# Altium footprint library 5200.PcbLib: 38 footprints (part 2 of 3)
Each footprint in its own frame and in the unit in brackets; x right, y up, seen from the top. Pads: shape width x height; smd on the part's side, far side on the other; paste and mask are expansions set on the pad; w line width, h text height; cw(c..) or ccw(c..) is an arc to the next point about the centre after c.
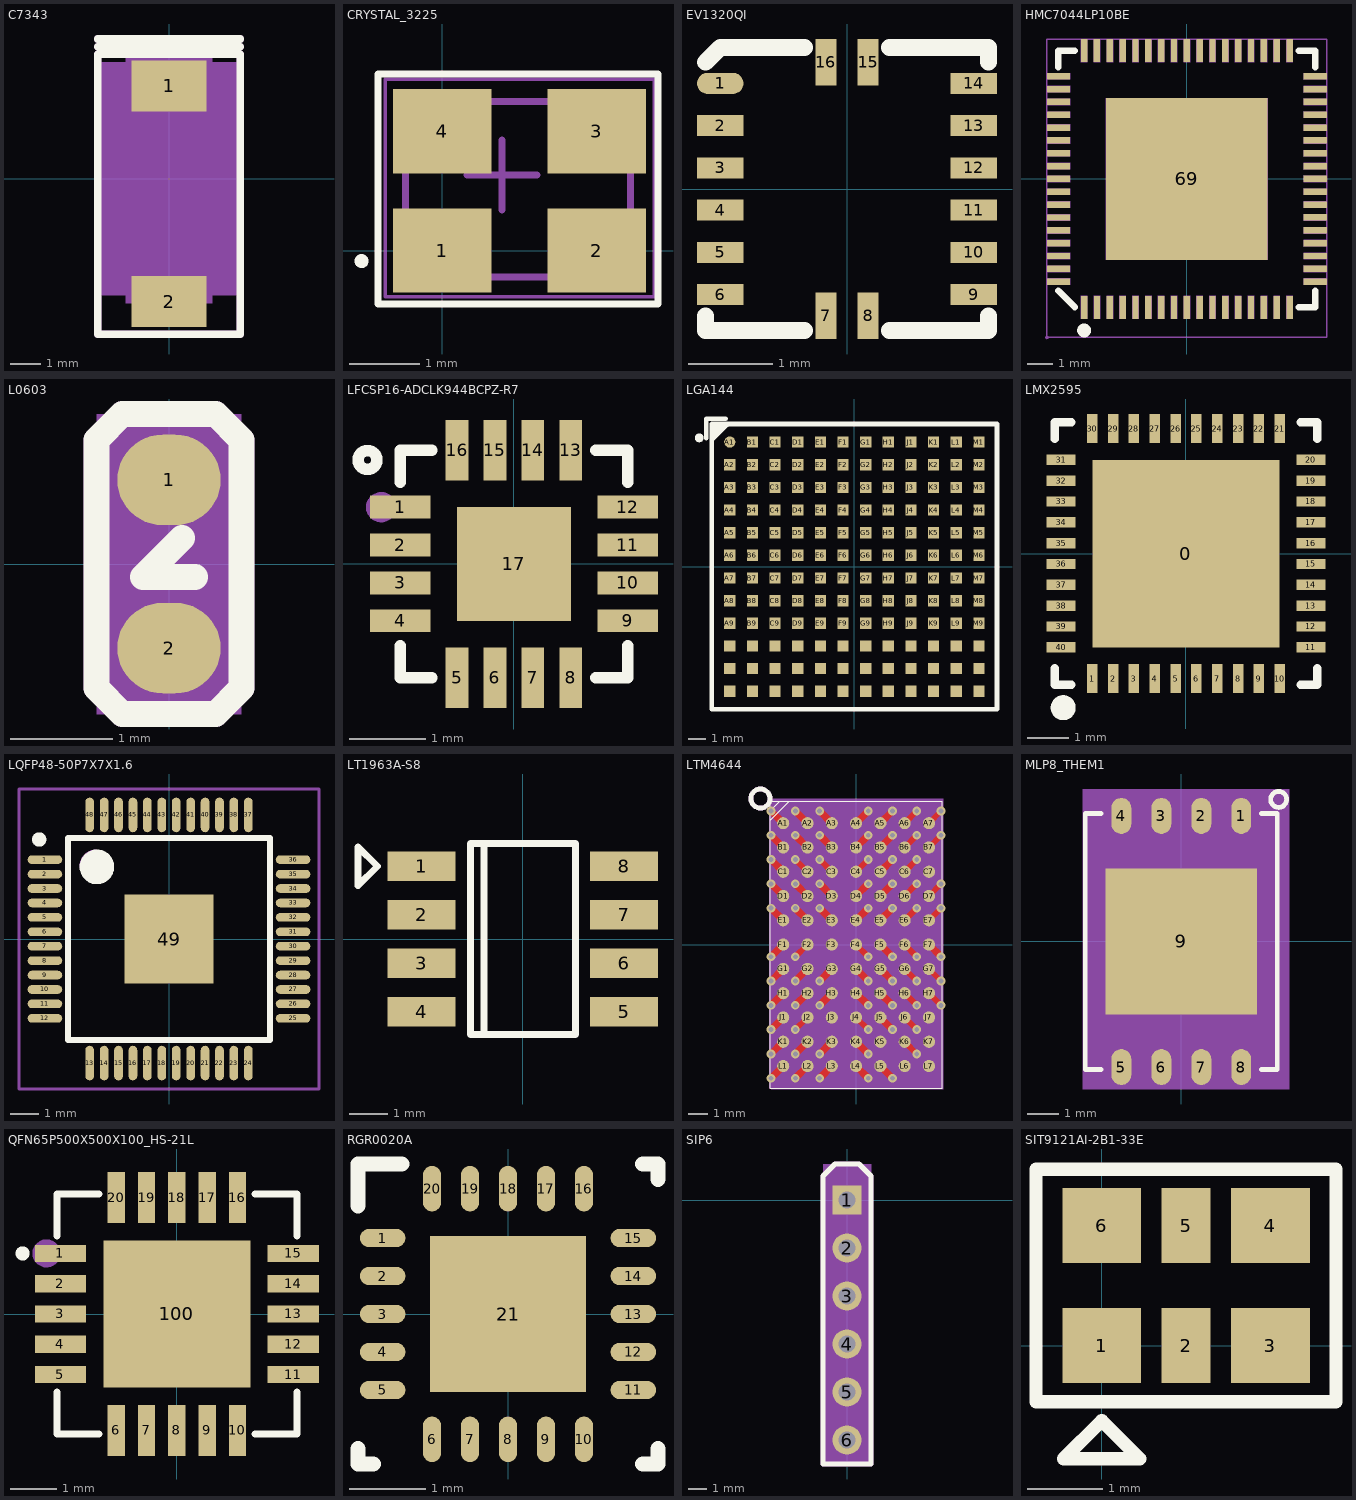
[diagram p1: the footprints below, top view; thin cyan lines are the x and y axes]

## C7343 [mil] "C7343"
pads (2):
  rect 98x67 smd: 1(0,121.98) 2(0,-161.35)
Top Overlay:
  lines w9.84: -93.58,-163.48 -93.58,-204.06 93.58,-204.06 93.58,-163.48
  lines w10: -93.58,-163.48 -93.58,163.48 ; -93.58,173.48 93.58,173.48 ; -93.58,183.48 93.58,183.48 ; 93.58,-163.48 93.58,163.48 ; -93.58,163.48 93.58,163.48 ; -93.58,163.48 93.58,163.48
Mechanical 5:
  lines w9.84: -93.58,-163.48 -93.58,-204.06 93.58,-204.06 93.58,-163.48
  lines w10: -93.58,-163.48 -93.58,163.48 ; -93.58,173.48 93.58,173.48 ; -93.58,183.48 93.58,183.48 ; 93.58,-163.48 93.58,163.48 ; -93.58,163.48 93.58,163.48 ; -93.58,163.48 93.58,163.48
  text "CT1" at -30,209.48 h25
Mechanical 14:
  text "1" at -10,121.98 h25
  text "2" at -10,-161.35 h25
Mechanical 16:
  pour cut-out: 57,163.48 57,152.64 93.58,152.64 93.58,-152.64 57,-152.64 57,-163.48 -57,-163.48 -57,-152.64 -93.58,-152.64 -93.58,152.64 -57,152.64 -57,163.48
  region: -88.58,147.64 -88.58,-147.64 88.58,-147.64 88.58,147.64
  lines w1: -88.58,-147.64 -88.58,147.64 88.58,147.64 88.58,-147.64 -88.58,-147.64
Mechanical 17:
  text ".Designator" at -30,-16.67 h25
3D body: height 150, standoff 0, extent -88.58,-147.64 88.58,147.64

## CRYSTAL_3225 [mm]
pads (4):
  rect 1.4x1.2 smd: 1(0,0) 2(2.2,0) 3(2.2,1.7) 4(0,1.7)
Top Overlay:
  circle w0.1: c-1.15,-0.15 r0.05
  lines w0.1: -0.914,-0.762 -0.914,2.515 3.073,2.515 3.073,-0.762 -0.914,-0.762
Mechanical 13:
  lines w0.1: -0.521,-0.379 2.679,-0.379 2.679,2.121 -0.521,2.121 -0.521,-0.379
Mechanical 15:
  lines w0.05: -0.813,-0.66 3.023,-0.66 3.023,2.438 -0.813,2.438 -0.813,-0.66
  lines w0.1: 0.35,1.075 1.35,1.075 ; 0.85,0.575 0.85,1.575
3D body: height 0.7, standoff 0.1, extent -0.508,-0.412 2.692,2.088

## EV1320QI [mm]
pads (16):
  oval 0.55x0.25 smd: 1(-1.5,1.25)
  rect 0.55x0.25 smd: 2(-1.5,0.75) 3(-1.5,0.25) 4(-1.5,-0.25) 5(-1.5,-0.75) 6(-1.5,-1.25) 9(1.5,-1.25) 10(1.5,-0.75) 11(1.5,-0.25) 12(1.5,0.25) 13(1.5,0.75) 14(1.5,1.25)
  rect 0.25x0.55 smd: 7(-0.25,-1.5) 8(0.25,-1.5) 15(0.25,1.5) 16(-0.25,1.5)
Top Overlay:
  lines w0.2: -1.675,-1.5 -1.675,-1.675 -0.5,-1.675 ; -1.675,1.5 -1.5,1.675 -0.5,1.675 ; 0.5,-1.675 1.675,-1.675 1.675,-1.5 ; 0.5,1.675 1.675,1.675 1.675,1.5

## HMC7044LP10BE [mm]
pads (69):
  rect 0.25x0.9 smd mask+0.051: 1(-4,-5) 2(-3.5,-5) 3(-3,-5) 4(-2.5,-5) 5(-2,-5) 6(-1.5,-5) 7(-1,-5) 8(-0.5,-5) 9(0,-5) 10(0.5,-5) 11(1,-5) 12(1.5,-5) 13(2,-5) 14(2.5,-5) 15(3,-5) 16(3.5,-5) 17(4,-5) 35(4,5) 36(3.5,5) 37(3,5) 38(2.5,5) 39(2,5) 40(1.5,5) 41(1,5) 42(0.5,5) 43(0,5) 44(-0.5,5) 45(-1,5) 46(-1.5,5) 47(-2,5) 48(-2.5,5) 49(-3,5) 50(-3.5,5) 51(-4,5)
  rect 0.9x0.25 smd mask+0.051: 18(5,-4) 19(5,-3.5) 20(5,-3) 21(5,-2.5) 22(5,-2) 23(5,-1.5) 24(5,-1) 25(5,-0.5) 26(5,0) 27(5,0.5) 28(5,1) 29(5,1.5) 30(5,2) 31(5,2.5) 32(5,3) 33(5,3.5) 34(5,4) 52(-5,4) 53(-5,3.5) 54(-5,3) 55(-5,2.5) 56(-5,2) 57(-5,1.5) 58(-5,1) 59(-5,0.5) 60(-5,0) 61(-5,-0.5) 62(-5,-1) 63(-5,-1.5) 64(-5,-2) 65(-5,-2.5) 66(-5,-3) 67(-5,-3.5) 68(-5,-4)
  rect 6.3x6.3 smd mask+0.051: 69(0,0)
Top Overlay:
  circle w0.254: c-4,-5.9 r0.141
  lines w0.254: -5,-4.356 -4.356,-5 ; -5,4.356 -5,5 -4.356,5 ; 4.356,-5 5,-5 5,-4.356 ; 4.356,5 5,5 5,4.356
Mechanical 15:
  drawing of 74 lines, arcs and shapes, not listed

## L0603 [mil] "L0603"
pads (2):
  oval 40x35 smd: 1(0,32.5) 2(0,-32.5)
Top Overlay:
  lines w10: 5,10 -10,-5 10,-5 ; -28,-48 -18,-58 18,-58 28,-48 28,48 18,58 -18,58 -28,48 -28,-48
Mechanical 5:
  lines w10: -25,-51.01 -28,-48 -28,48 -25,51.01 ; -21,-54.99 -18,-58 18,-58 21,-54.99 ; -21,54.99 -18,58 18,58 21,54.99 ; 5,10 -10,-5 10,-5 ; 25,-51.01 28,-48 28,48 25,51.01
Mechanical 14:
  text "2" at 11.2,-32.5 h28
  text "1" at 11.2,32.5 h28
Mechanical 16:
  region: -19.7,-35.4 19.7,-35.4 19.7,35.4 -19.7,35.4
  pour cut-out: -28,-58 28,-58 28,58 -28,58
  lines w1: -19.7,-35.4 19.7,-35.4 19.7,35.4 -19.7,35.4 -19.7,-35.4
3D body: height 150, standoff 0, extent -19.7,-35.4 19.7,35.4

## LFCSP16-ADCLK944BCPZ-R7 [mm]
pads (17):
  rect 0.8x0.3 smd: 1(-1.5,0.75) 2(-1.5,0.249) 3(-1.5,-0.25) 4(-1.5,-0.75) 9(1.5,-0.75) 10(1.5,-0.25) 11(1.5,0.25) 12(1.5,0.75)
  rect 0.3x0.8 smd: 5(-0.75,-1.5) 6(-0.25,-1.5) 7(0.25,-1.5) 8(0.751,-1.498) 13(0.75,1.5) 14(0.25,1.5) 15(-0.25,1.5) 16(-0.75,1.5)
  rect 1.5x1.5 smd: 17(0,0)
Top Overlay:
  lines w0.15: -1.805,1.37 cw(c-1.93,1.372) -1.805,1.373 ; -1.5,-1.079 -1.5,-1.5 -1.079,-1.5 ; -1.5,1.079 -1.5,1.5 -1.079,1.5 ; 1.08,-1.5 1.5,-1.5 1.5,-1.079 ; 1.079,1.5 1.5,1.5 1.5,1.079
Top Paste:
  region: -0.6,1.9 -0.6,1.1 -0.9,1.1 -0.9,1.9
  region: -0.1,1.9 -0.1,1.1 -0.4,1.1 -0.4,1.9
  region: 0.4,1.9 0.4,1.1 0.1,1.1 0.1,1.9
  region: 0.9,1.9 0.9,1.1 0.6,1.1 0.6,1.9
  region: 1.9,0.9 1.9,0.6 1.1,0.6 1.1,0.9
  region: 1.9,0.4 1.9,0.1 1.1,0.1 1.1,0.4
  region: 1.9,-0.1 1.9,-0.4 1.1,-0.4 1.1,-0.1
  region: 1.9,-0.6 1.9,-0.9 1.1,-0.9 1.1,-0.6
  region: 0.901,-1.098 0.901,-1.898 0.601,-1.898 0.601,-1.098
  region: 0.4,-1.1 0.4,-1.9 0.1,-1.9 0.1,-1.1
  region: -0.1,-1.1 -0.1,-1.9 -0.4,-1.9 -0.4,-1.1
  region: -0.6,-1.1 -0.6,-1.9 -0.9,-1.9 -0.9,-1.1
  region: -1.1,-0.6 -1.1,-0.9 -1.9,-0.9 -1.9,-0.6
  region: -1.1,-0.1 -1.1,-0.4 -1.9,-0.4 -1.9,-0.1
  region: -1.1,0.398 -1.1,0.099 -1.9,0.099 -1.9,0.398
  region: -1.1,0.9 -1.1,0.6 -1.9,0.6 -1.9,0.9
  region: -0.6,-0.6 -0.6,0.6 0.6,0.6 0.6,-0.6
Mechanical 15:
  circle w0.2: c-1.75,0.75 r0.1

## LGA144 [mm] "LTM4630"
pads (144):
  round 0.63 smd: A1(-6.985,6.985)
  rect 0.63x0.63 smd: A2(-6.985,5.715) A3(-6.985,4.445) A4(-6.985,3.175) A5(-6.985,1.905) A6(-6.985,0.635) A7(-6.985,-0.635) A8(-6.985,-1.905) A9(-6.985,-3.175) A10(-6.985,-4.445) A11(-6.985,-5.715) A12(-6.985,-6.985) B1(-5.715,6.985) B2(-5.715,5.715) B3(-5.715,4.445) B4(-5.715,3.175) B5(-5.715,1.905) B6(-5.715,0.635) B7(-5.715,-0.635) B8(-5.715,-1.905) B9(-5.715,-3.175) B10(-5.715,-4.445) B11(-5.715,-5.715) B12(-5.715,-6.985) C1(-4.445,6.985) C2(-4.445,5.715) C3(-4.445,4.445) C4(-4.445,3.175) C5(-4.445,1.905) C6(-4.445,0.635) C7(-4.445,-0.635) C8(-4.445,-1.905) C9(-4.445,-3.175) C10(-4.445,-4.445) C11(-4.445,-5.715) C12(-4.445,-6.985) D1(-3.175,6.985) D2(-3.175,5.715) D3(-3.175,4.445) D4(-3.175,3.175) D5(-3.175,1.905) D6(-3.175,0.635) D7(-3.175,-0.635) D8(-3.175,-1.905) D9(-3.175,-3.175) D10(-3.175,-4.445) D11(-3.175,-5.715) D12(-3.175,-6.985) E1(-1.905,6.985) E2(-1.905,5.715) E3(-1.905,4.445) E4(-1.905,3.175) E5(-1.905,1.905) E6(-1.905,0.635) E7(-1.905,-0.635) E8(-1.905,-1.905) E9(-1.905,-3.175) E10(-1.905,-4.445) E11(-1.905,-5.715) E12(-1.905,-6.985) F1(-0.635,6.985) F2(-0.635,5.715) F3(-0.635,4.445) F4(-0.635,3.175) F5(-0.635,1.905) F6(-0.635,0.635) F7(-0.635,-0.635) F8(-0.635,-1.905) F9(-0.635,-3.175) F10(-0.635,-4.445) F11(-0.635,-5.715) F12(-0.635,-6.985) G1(0.635,6.985) G2(0.635,5.715) G3(0.635,4.445) G4(0.635,3.175) G5(0.635,1.905) G6(0.635,0.635) G7(0.635,-0.635) G8(0.635,-1.905) G9(0.635,-3.175) G10(0.635,-4.445) G11(0.635,-5.715) G12(0.635,-6.985) H1(1.905,6.985) H2(1.905,5.715) H3(1.905,4.445) H4(1.905,3.175) H5(1.905,1.905) H6(1.905,0.635) H7(1.905,-0.635) H8(1.905,-1.905) H9(1.905,-3.175) H10(1.905,-4.445) H11(1.905,-5.715) H12(1.905,-6.985) J1(3.175,6.985) J2(3.175,5.715) J3(3.175,4.445) J4(3.175,3.175) J5(3.175,1.905) J6(3.175,0.635) J7(3.175,-0.635) J8(3.175,-1.905) J9(3.175,-3.175) J10(3.175,-4.445) J11(3.175,-5.715) J12(3.175,-6.985) K1(4.445,6.985) K2(4.445,5.715) K3(4.445,4.445) K4(4.445,3.175) K5(4.445,1.905) K6(4.445,0.635) K7(4.445,-0.635) K8(4.445,-1.905) K9(4.445,-3.175) K10(4.445,-4.445) K11(4.445,-5.715) K12(4.445,-6.985) L1(5.715,6.985) L2(5.715,5.715) L3(5.715,4.445) L4(5.715,3.175) L5(5.715,1.905) L6(5.715,0.635) L7(5.715,-0.635) L8(5.715,-1.905) L9(5.715,-3.175) L10(5.715,-4.445) L11(5.715,-5.715) L12(5.715,-6.985) M1(6.985,6.985) M2(6.985,5.715) M3(6.985,4.445) M4(6.985,3.175) M5(6.985,1.905) M6(6.985,0.635) M7(6.985,-0.635) M8(6.985,-1.905) M9(6.985,-3.175) M10(6.985,-4.445) M11(6.985,-5.715) M12(6.985,-6.985)
Top Overlay:
  lines w0.249: -8.7,7.1 cw(c-8.699,7.225) -8.697,7.1
  lines w0.254: -8.3,7.2 -8.3,8.3 -7.2,8.3 ; -8,7.1 -7.165,7.935 -7.165,8 ; -8,7.401 -7.401,8 -7.33,8 ; -8,7.6 -7.699,7.901 -7.699,8 ; -8,-8 8,-8 8,8 -8,8 -8,-8

## LMX2595 [mm]
pads (41):
  rect 4.5x4.5 smd mask+0.05: 0(0,0)
  rect 0.25x0.7 smd mask+0.05: 1(-2.25,-3) 2(-1.75,-3) 3(-1.25,-3) 4(-0.75,-3) 5(-0.25,-3) 6(0.25,-3) 7(0.75,-3) 8(1.25,-3) 9(1.75,-3) 10(2.25,-3) 21(2.25,3) 22(1.75,3) 23(1.25,3) 24(0.75,3) 25(0.25,3) 26(-0.25,3) 27(-0.75,3) 28(-1.25,3) 29(-1.75,3) 30(-2.25,3)
  rect 0.7x0.25 smd mask+0.05: 11(3,-2.25) 12(3,-1.75) 13(3,-1.25) 14(3,-0.75) 15(3,-0.25) 16(3,0.25) 17(3,0.75) 18(3,1.25) 19(3,1.75) 20(3,2.25) 31(-3,2.25) 32(-3,1.75) 33(-3,1.25) 34(-3,0.75) 35(-3,0.25) 36(-3,-0.25) 37(-3,-0.75) 38(-3,-1.25) 39(-3,-1.75) 40(-3,-2.25)
Top Overlay:
  lines w0.2: -3.15,-2.75 -3.15,-3.15 -2.75,-3.15 ; -3.15,2.75 -3.15,3.15 -2.75,3.15 ; 2.75,-3.15 3.15,-3.15 3.15,-2.75 ; 2.75,3.15 3.15,3.15 3.15,2.75
  lines w0.3: -2.949,-3.551 ccw(c-2.948,-3.701) -2.947,-3.551

## LQFP48-50P7X7X1.6 [mm] "LQFP, 48-Leads, Body 9.2x9.2mm (max), Pitch 0.50mm, IPC Medium Density"
height 1.6
pads (49):
  oval 1.2x0.3 smd: 1(-4.3,2.75) 2(-4.3,2.25) 3(-4.3,1.75) 4(-4.3,1.25) 5(-4.3,0.75) 6(-4.3,0.25) 7(-4.3,-0.25) 8(-4.3,-0.75) 9(-4.3,-1.25) 10(-4.3,-1.75) 11(-4.3,-2.25) 12(-4.3,-2.75) 25(4.3,-2.75) 26(4.3,-2.25) 27(4.3,-1.75) 28(4.3,-1.25) 29(4.3,-0.75) 30(4.3,-0.25) 31(4.3,0.25) 32(4.3,0.75) 33(4.3,1.25) 34(4.3,1.75) 35(4.3,2.25) 36(4.3,2.75)
  oval 0.3x1.2 smd: 13(-2.75,-4.3) 14(-2.25,-4.3) 15(-1.75,-4.3) 16(-1.25,-4.3) 17(-0.75,-4.3) 18(-0.25,-4.3) 19(0.25,-4.3) 20(0.75,-4.3) 21(1.25,-4.3) 22(1.75,-4.3) 23(2.25,-4.3) 24(2.75,-4.3) 37(2.75,4.3) 38(2.25,4.3) 39(1.75,4.3) 40(1.25,4.3) 41(0.75,4.3) 42(0.25,4.3) 43(-0.25,4.3) 44(-0.75,4.3) 45(-1.25,4.3) 46(-1.75,4.3) 47(-2.25,4.3) 48(-2.75,4.3)
  rect 3.1x3.1 smd: 49(0,0)
Top Overlay:
  circle w0.25: c-4.5,3.45 r0.125
  circle w0.6: c-2.5,2.5 r0.3
  lines w0.2: -3.5,-3.5 -3.5,3.5 3.5,3.5 3.5,-3.5 -3.5,-3.5
Mechanical 13:
  circle w0.1: c-2.55,2.55 r0.5
  lines w0.1: -3.5,-3.5 -3.5,3.5 3.5,3.5 3.5,-3.5 -3.5,-3.5
Mechanical 15:
  lines w0.1: -0.5,0 0.5,0 ; 0,-0.5 0,0.5 ; -5.2,-5.2 -5.2,5.2 5.2,5.2 5.2,-5.2 -5.2,-5.2
3D body: height 1.6, standoff 0.05, extent -3.5,-3.5 3.5,3.5

## LT1963A-S8 [mil]
pads (8):
  rect 70x30 smd: 1(-104.33,75) 2(-104.33,25) 3(-104.33,-25) 4(-104.33,-75) 5(104.33,-75) 6(104.33,-25) 7(104.33,25) 8(104.33,75)
Top Overlay:
  lines w7: -40,-98.43 -40,98.43 ; -170,55 -170,95 -150,75 -170,55 ; -54.02,-98.43 54.2,-98.43 54.2,98.43 -54.02,98.43 -54.02,-98.43

## LTM4644 [mm] "LTM4644"
pads (77):
  round 0.635 smd: A1(-3.81,6.35) A2(-2.54,6.35) A3(-1.27,6.35) A4(0,6.35) A5(1.27,6.35) A6(2.54,6.35) A7(3.81,6.35) B1(-3.81,5.08) B2(-2.54,5.08) B3(-1.27,5.08) B4(0,5.08) B5(1.27,5.08) B6(2.54,5.08) B7(3.81,5.08) C1(-3.81,3.81) C2(-2.54,3.81) C3(-1.27,3.81) C4(0,3.81) C5(1.27,3.81) C6(2.54,3.81) C7(3.81,3.81) D1(-3.81,2.54) D2(-2.54,2.54) D3(-1.27,2.54) D4(0,2.54) D5(1.27,2.54) D6(2.54,2.54) D7(3.81,2.54) E1(-3.81,1.27) E2(-2.54,1.27) E3(-1.27,1.27) E4(0,1.27) E5(1.27,1.27) E6(2.54,1.27) E7(3.81,1.27) F1(-3.81,0) F2(-2.54,0) F3(-1.27,0) F4(0,0) F5(1.27,0) F6(2.54,0) F7(3.81,0) G1(-3.81,-1.27) G2(-2.54,-1.27) G3(-1.27,-1.27) G4(0,-1.27) G5(1.27,-1.27) G6(2.54,-1.27) G7(3.81,-1.27) H1(-3.81,-2.54) H2(-2.54,-2.54) H3(-1.27,-2.54) H4(0,-2.54) H5(1.27,-2.54) H6(2.54,-2.54) H7(3.81,-2.54) J1(-3.81,-3.81) J2(-2.54,-3.81) J3(-1.27,-3.81) J4(0,-3.81) J5(1.27,-3.81) J6(2.54,-3.81) J7(3.81,-3.81) K1(-3.81,-5.08) K2(-2.54,-5.08) K3(-1.27,-5.08) K4(0,-5.08) K5(1.27,-5.08) K6(2.54,-5.08) K7(3.81,-5.08) L1(-3.81,-6.35) L2(-2.54,-6.35) L3(-1.27,-6.35) L4(0,-6.35) L5(1.27,-6.35) L6(2.54,-6.35) L7(3.81,-6.35)
via -3.175,-4.445 diameter 0.457 hole 0.254
via 3.175,-3.175 diameter 0.457 hole 0.254
via 0.635,-4.445 diameter 0.457 hole 0.254
via -3.175,-0.635 diameter 0.457 hole 0.254
via -1.905,4.445 diameter 0.457 hole 0.254
via -3.175,4.445 diameter 0.457 hole 0.254
via 3.175,5.715 diameter 0.457 hole 0.254
via 0.635,4.445 diameter 0.457 hole 0.254
via 3.175,6.985 diameter 0.457 hole 0.254
via 3.175,3.175 diameter 0.457 hole 0.254
via 3.175,-1.905 diameter 0.457 hole 0.254
via 4.445,-3.175 diameter 0.457 hole 0.254
via 4.445,1.905 diameter 0.457 hole 0.254
via 4.445,5.715 diameter 0.457 hole 0.254
via 3.175,-5.715 diameter 0.457 hole 0.254
via 3.175,1.905 diameter 0.457 hole 0.254
via 0.635,-0.635 diameter 0.457 hole 0.254
via 4.445,3.175 diameter 0.457 hole 0.254
via 4.445,-1.905 diameter 0.457 hole 0.254
via 4.445,6.985 diameter 0.457 hole 0.254
via 3.175,4.445 diameter 0.457 hole 0.254
via 3.175,-0.635 diameter 0.457 hole 0.254
via 3.175,-4.445 diameter 0.457 hole 0.254
via -3.175,3.175 diameter 0.457 hole 0.254
via -4.445,3.175 diameter 0.457 hole 0.254
via -4.445,-0.635 diameter 0.457 hole 0.254
via -3.175,-1.905 diameter 0.457 hole 0.254
via -4.445,-1.905 diameter 0.457 hole 0.254
via -4.445,6.985 diameter 0.457 hole 0.254
via -4.445,4.445 diameter 0.457 hole 0.254
via -3.175,6.985 diameter 0.457 hole 0.254
via -1.905,6.985 diameter 0.457 hole 0.254
via 1.905,1.905 diameter 0.457 hole 0.254
via 0.635,1.905 diameter 0.457 hole 0.254
via -1.905,1.905 diameter 0.457 hole 0.254
via -1.905,5.715 diameter 0.457 hole 0.254
via 0.635,5.715 diameter 0.457 hole 0.254
via 1.905,5.715 diameter 0.457 hole 0.254
via -1.905,-3.175 diameter 0.457 hole 0.254
via 1.905,-3.175 diameter 0.457 hole 0.254
via 0.635,-3.175 diameter 0.457 hole 0.254
via 1.905,-6.985 diameter 0.457 hole 0.254
via 0.635,-6.985 diameter 0.457 hole 0.254
via -1.905,-6.985 diameter 0.457 hole 0.254
via -4.445,-4.445 diameter 0.457 hole 0.254
via -4.445,-5.715 diameter 0.457 hole 0.254
via -3.175,-5.715 diameter 0.457 hole 0.254
via -4.445,1.905 diameter 0.457 hole 0.254
via -3.175,1.905 diameter 0.457 hole 0.254
via -4.445,5.715 diameter 0.457 hole 0.254
via -3.175,5.715 diameter 0.457 hole 0.254
via -4.445,-6.985 diameter 0.457 hole 0.254
via -4.445,-3.175 diameter 0.457 hole 0.254
via -3.175,-3.175 diameter 0.457 hole 0.254
via -3.175,-6.985 diameter 0.457 hole 0.254
via 1.905,4.445 diameter 0.457 hole 0.254
via 0.635,6.985 diameter 0.457 hole 0.254
via 1.905,6.985 diameter 0.457 hole 0.254
via -1.905,3.175 diameter 0.457 hole 0.254
via 1.905,3.175 diameter 0.457 hole 0.254
via 0.635,3.175 diameter 0.457 hole 0.254
via 1.905,-4.445 diameter 0.457 hole 0.254
via 1.905,-0.635 diameter 0.457 hole 0.254
via 4.445,-0.635 diameter 0.457 hole 0.254
via -1.905,-5.715 diameter 0.457 hole 0.254
via 0.635,-5.715 diameter 0.457 hole 0.254
via 1.905,-1.905 diameter 0.457 hole 0.254
via 0.635,-1.905 diameter 0.457 hole 0.254
via -1.905,-1.905 diameter 0.457 hole 0.254
Top Layer:
  lines w0.305: -3.175,-4.445 -2.54,-3.81 ; -3.175,-0.635 -2.54,0 ; -3.175,4.445 -2.54,3.81 ; -1.905,4.445 -1.27,3.81 ; 0,-3.81 0.635,-4.445 ; 0,0 0.635,-0.635 ; 0,3.81 0.635,4.445 ; 2.54,-5.08 3.175,-5.715 ; 2.54,-3.81 3.175,-4.445 ; 2.54,-2.54 3.175,-3.175 ; 2.54,-1.27 3.175,-1.905 ; 2.54,0 3.175,-0.635 ; 2.54,1.27 3.175,1.905 ; 2.54,2.54 3.175,3.175 ; 2.54,3.81 3.175,4.445 ; 2.54,5.08 3.175,5.715 ; 2.54,6.35 3.175,6.985 ; 3.81,-2.54 4.445,-3.175 ; 3.81,-1.27 4.445,-1.905 ; 3.81,1.27 4.445,1.905 ; 3.81,2.54 4.445,3.175 ; 3.81,5.08 4.445,5.715 ; 3.81,6.35 4.445,6.985
  lines w0.381: -4.445,-6.985 -3.81,-6.35 ; -4.445,-5.715 -3.81,-5.08 ; -4.445,-4.445 -3.81,-3.81 ; -4.445,-3.175 -3.81,-2.54 ; -4.445,-1.905 -3.81,-1.27 ; -4.445,-0.635 -3.81,0 ; -4.445,1.905 -3.81,1.27 ; -4.445,3.175 -3.81,2.54 ; -4.445,4.445 -3.81,3.81 ; -4.445,5.715 -3.81,5.08 ; -4.445,6.985 -3.81,6.35 ; -3.175,-6.985 -2.54,-6.35 ; -3.175,-5.715 -2.54,-5.08 ; -3.175,-3.175 -2.54,-2.54 ; -3.175,-1.905 -2.54,-1.27 ; -3.175,1.905 -2.54,1.27 ; -3.175,3.175 -2.54,2.54 ; -3.175,5.715 -2.54,5.08 ; -3.175,6.985 -2.54,6.35 ; -1.905,-6.985 -1.27,-6.35 ; -1.905,-5.715 -1.27,-5.08 ; -1.905,-3.175 -1.27,-2.54 ; -1.905,-1.905 -1.27,-1.27 ; -1.905,1.905 -1.27,1.27 ; -1.905,3.175 -1.27,2.54 ; -1.905,5.715 -1.27,5.08 ; -1.905,6.985 -1.27,6.35 ; 0,-6.35 0.635,-6.985 ; 0,-5.08 0.635,-5.715 ; 0,-2.54 0.635,-3.175 ; 0,-1.27 0.635,-1.905 ; 0,1.27 0.635,1.905 ; 0,2.54 0.635,3.175 ; 0,5.08 0.635,5.715 ; 0,6.35 0.635,6.985 ; 1.27,-6.35 1.905,-6.985 ; 1.27,-3.81 1.905,-4.445 ; 1.27,-2.54 1.905,-3.175 ; 1.27,-1.27 1.905,-1.905 ; 1.27,0 1.905,-0.635 ; 1.27,1.27 1.905,1.905 ; 1.27,2.54 1.905,3.175 ; 1.27,3.81 1.905,4.445 ; 1.27,5.08 1.905,5.715 ; 1.27,6.35 1.905,6.985 ; 3.81,0 4.445,-0.635
Top Overlay:
  lines w0.05: -4,7.5 -4.5,7 -4.5,6.5 ; -4.5,6.5 -3.5,7.5 -4.5,6.5 ; -4.5,-7.5 4.5,-7.5 4.5,7.5 -4.5,7.5 -4.5,-7.5
  lines w0.25: -5.5,7.635 ccw(c-5,7.635) -5,7.135 ccw(c-5,7.635) -4.5,7.635 ccw(c-5,7.635) -5,8.135 ccw(c-5,7.635) -5.5,7.635
Mechanical 5:
  lines w0.05: -4,7.5 -4.5,7 -4.5,6.5 ; -4.5,6.5 -3.5,7.5 -4.5,6.5 ; -4.5,-7.5 4.5,-7.5 4.5,7.5 -4.5,7.5 -4.5,-7.5
  lines w0.25: -5.5,7.635 cw(c-5,7.635) -5,8.135 cw(c-5,7.635) -4.5,7.635 cw(c-5,7.635) -5,7.135 cw(c-5,7.635) -5.5,7.635
  text "U136" at 4.954,1.557 h0.64
Mechanical 14:
  text "L6" at 2.54,-5.842 h0.64
  text "K5" at 1.27,-4.572 h0.64
  text "J2" at -2.54,-3.302 h0.64
  text "H6" at 2.54,-2.032 h0.64
  text "J4" at 0,-3.302 h0.64
  text "F2" at -2.54,0.508 h0.64
  text "C3" at -1.27,4.318 h0.64
  text "C2" at -2.54,4.318 h0.64
  text "B6" at 2.54,5.588 h0.64
  text "C4" at 0,4.318 h0.64
  text "A6" at 2.54,6.858 h0.64
  text "D6" at 2.54,3.048 h0.64
  text "G6" at 2.54,-0.762 h0.64
  text "J7" at 3.81,-3.302 h0.64
  text "K7" at 3.81,-4.572 h0.64
  text "H7" at 3.81,-2.032 h0.64
  text "E7" at 3.81,1.778 h0.64
  text "B7" at 3.81,5.588 h0.64
  text "K6" at 2.54,-4.572 h0.64
  text "E6" at 2.54,1.778 h0.64
  text "F4" at 0,0.508 h0.64
  text "D7" at 3.81,3.048 h0.64
  text "G7" at 3.81,-0.762 h0.64
  text "A7" at 3.81,6.858 h0.64
  text "C6" at 2.54,4.318 h0.64
  text "F6" at 2.54,0.508 h0.64
  text "J6" at 2.54,-3.302 h0.64
  text "C7" at 3.81,4.318 h0.64
  text "J3" at -1.27,-3.302 h0.64
  text "L7" at 3.81,-5.842 h0.64
  text "F3" at -1.27,0.508 h0.64
  text "D2" at -2.54,3.048 h0.64
  text "D1" at -3.81,3.048 h0.64
  text "F1" at -3.81,0.508 h0.64
  text "G2" at -2.54,-0.762 h0.64
  text "G1" at -3.81,-0.762 h0.64
  text "A1" at -3.81,6.858 h0.64
  text "C1" at -3.81,4.318 h0.64
  text "A2" at -2.54,6.858 h0.64
  text "A3" at -1.27,6.858 h0.64
  text "E5" at 1.27,1.778 h0.64
  text "E4" at 0,1.778 h0.64
  text "E3" at -1.27,1.778 h0.64
  text "B3" at -1.27,5.588 h0.64
  text "B4" at 0,5.588 h0.64
  text "B5" at 1.27,5.588 h0.64
  text "H3" at -1.27,-2.032 h0.64
  text "H5" at 1.27,-2.032 h0.64
  text "H4" at 0,-2.032 h0.64
  text "L5" at 1.27,-5.842 h0.64
  text "L4" at 0,-5.842 h0.64
  text "L3" at -1.27,-5.842 h0.64
  text "J1" at -3.81,-3.302 h0.64
  text "K1" at -3.81,-4.572 h0.64
  text "K2" at -2.54,-4.572 h0.64
  text "E1" at -3.81,1.778 h0.64
  text "E2" at -2.54,1.778 h0.64
  text "B1" at -3.81,5.588 h0.64
  text "B2" at -2.54,5.588 h0.64
  text "L1" at -3.81,-5.842 h0.64
  text "H1" at -3.81,-2.032 h0.64
  text "H2" at -2.54,-2.032 h0.64
  text "L2" at -2.54,-5.842 h0.64
  text "C5" at 1.27,4.318 h0.64
  text "A4" at 0,6.858 h0.64
  text "A5" at 1.27,6.858 h0.64
  text "D3" at -1.27,3.048 h0.64
  text "D5" at 1.27,3.048 h0.64
  text "D4" at 0,3.048 h0.64
  text "J5" at 1.27,-3.302 h0.64
  text "F5" at 1.27,0.508 h0.64
  text "F7" at 3.81,0.508 h0.64
  text "K3" at -1.27,-4.572 h0.64
  text "K4" at 0,-4.572 h0.64
  text "G5" at 1.27,-0.762 h0.64
  text "G4" at 0,-0.762 h0.64
  text "G3" at -1.27,-0.762 h0.64
Mechanical 16:
  circle w0.05: c0,0 r0.35
  region: -4.445,-7.55 4.55,-7.55 4.55,7.625 -4.445,7.625
  lines w0.05: -0.5,0 0.5,0 ; 0,-0.5 0,0.5
  lines w0.1: -4.5,6.5 -3.5,7.5 ; -4.5,6.6 -3.6,7.5 ; -4.5,6.7 -3.7,7.5 ; -4.5,6.8 -3.8,7.5 ; -4.5,6.9 -3.9,7.5 ; -4.5,7 -4,7.5 ; -4.5,7.1 -4.1,7.5 ; -4.5,7.2 -4.2,7.5 ; -4.5,7.3 -4.3,7.5 ; -4.5,7.4 -4.4,7.5 ; -4.5,-7.5 -4.5,7.5 4.5,7.5 4.5,-7.5 -4.5,-7.5
Mechanical 17:
  text "LTM4644IY" at 7.62,4.826 h0.64
3D body: height 3.81, standoff 0, extent -4.445,-7.55 4.55,7.625

## MLP8_THEM1 [mil] "MLP8_THEM1"
pads (9):
  oval 25x45 smd: 1(75,157) 2(25,157) 3(-25,157) 4(-75,157) 5(-75,-157) 6(-25,-157) 7(25,-157) 8(75,-157)
  rect 188.98x183.07 smd: 9(0,0)
Top Overlay:
  lines w6: -100,-160 -120,-160 -120,160 -100,160 ; 100,-160 120,-160 120,160 100,160 ; 111.81,177.66 ccw(c121.81,177.66) 121.81,167.66 ccw(c121.81,177.66) 131.81,177.66 ccw(c121.81,177.66) 121.81,187.66 ccw(c121.81,177.66) 111.81,177.66
Mechanical 5:
  lines w6: -100,-160 -120,-160 -120,160 -100,160 ; 100,-160 120,-160 120,160 100,160 ; 111.81,177.66 cw(c121.81,177.66) 121.81,187.66 cw(c121.81,177.66) 131.81,177.66 cw(c121.81,177.66) 121.81,167.66 cw(c121.81,177.66) 111.81,177.66
Mechanical 14:
  text "9" at 0,-20 h25
  text "4" at -75,153 h10
  text "6" at -25,-161 h10
  text "2" at 25,153 h10
  text "7" at 25,-161 h10
  text "5" at -75,-161 h10
  text "1" at 75,153 h10
  text "3" at -25,153 h10
  text "8" at 75,-161 h10
Mechanical 16:
  region: -123,-184.5 134.81,-184.5 134.81,190.66 -123,190.66
  lines w6: -100,-160 -120,-160 -120,160 -100,160 ; 100,-160 120,-160 120,160 100,160
Mechanical 17:
  text ".Designator" at -10,-10 h31.1
  text "MT25QU256ABA1EW9-0SIT" at -100,-60 h25
3D body: height 150, standoff 0, extent -123,-184.5 134.81,190.66

## QFN65P500X500X100_HS-21L [mm]
pads (21):
  rect 1.1x0.37 smd: 1(-2.5,1.3) 2(-2.5,0.65) 3(-2.5,0) 4(-2.5,-0.65) 5(-2.5,-1.3) 11(2.5,-1.3) 12(2.5,-0.65) 13(2.5,0) 14(2.5,0.65) 15(2.5,1.3)
  rect 0.37x1.1 smd: 6(-1.3,-2.5) 7(-0.65,-2.5) 8(0,-2.5) 9(0.65,-2.5) 10(1.3,-2.5) 16(1.3,2.5) 17(0.65,2.5) 18(0,2.5) 19(-0.65,2.5) 20(-1.3,2.5)
  rect 3.15x3.15 smd: 100(0,0)
Top Overlay:
  circle w0.153: c-3.312,1.3 r0.076
  lines w0.152: -2.576,-1.672 -2.576,-2.576 -1.673,-2.576 ; -2.576,1.673 -2.576,2.576 -1.673,2.576 ; 1.672,-2.576 2.576,-2.576 2.576,-1.672 ; 1.672,2.576 2.576,2.576 2.576,1.673
Top Paste:
  region: -1.26,1.26 1.26,1.26 1.26,-1.26 -1.26,-1.26
Mechanical 15:
  circle w0.3: c-2.8,1.3 r0.15

## RGR0020A [mm]
pads (21):
  oval 0.6x0.24 smd: 1(-1.65,1) 2(-1.65,0.5) 3(-1.65,0) 4(-1.65,-0.5) 5(-1.65,-1) 11(1.65,-1) 12(1.65,-0.5) 13(1.65,0) 14(1.65,0.5) 15(1.65,1)
  oval 0.24x0.6 smd: 6(-1,-1.65) 7(-0.5,-1.65) 8(0,-1.65) 9(0.5,-1.65) 10(1,-1.65) 16(1,1.65) 17(0.5,1.65) 18(0,1.65) 19(-0.5,1.65) 20(-1,1.65)
  rect 2.05x2.05 smd: 21(0,0)
Top Overlay:
  lines w0.2: -1.975,-1.775 -1.975,-1.975 -1.775,-1.975 ; -1.975,1.425 -1.975,1.975 -1.4,1.975 ; 1.775,-1.975 1.975,-1.975 1.975,-1.775 ; 1.775,1.975 1.975,1.975 1.975,1.775

## SIP6 [mil] "SIP6"
pads (6):
  rect 60x60 / inner rect 55x55 / far side rect 60x60 hole 36: 1(0,0)
  round 60 / inner round 55 / far side round 60 hole 36: 2(0,-100) 3(0,-200) 4(0,-300) 5(0,-400) 6(0,-500)
Top Overlay:
  lines w10: -50,-550 50,-550 50,50 25,75 -25,75 -50,50 -50,-550
Mechanical 5:
  lines w10: -50,-550 50,-550 50,50 25,75 -25,75 -50,50 -50,-550
Mechanical 14:
  text "2" at 8,-100 h10
  text "1" at 8,0 h10
  text "5" at 8,-400 h10
  text "3" at 8,-200 h10
  text "6" at 8,-500 h10
  text "4" at 8,-300 h10
Mechanical 16:
  region: -50,-550 50,-550 50,75 -50,75
  lines w1: -50,-550 50,-550 50,50 25,75 -25,75 -50,50 -50,-550
Mechanical 17:
  text "***" at 9,-447 h25
3D body: height 150, standoff 0, extent -50,-550 50,75

## SIT9121AI-2B1-33E [mm]
pads (6):
  rect 1.05x1 smd: 1(0,0) 3(2.25,0) 4(2.25,1.6) 6(0,1.6)
  rect 0.65x1 smd: 2(1.125,0) 5(1.125,1.6)
Top Overlay:
  lines w0.178: -0.875,-0.75 3.125,-0.75 3.125,2.35 -0.875,2.35 -0.875,-0.75 ; -0.508,-1.508 0.508,-1.508 0,-1 -0.508,-1.508